# Altium schematic symbol library INDUCTORS.SchLib: 13 symbols
Pins are listed as number, name and electrical type; pins without a type are passive.

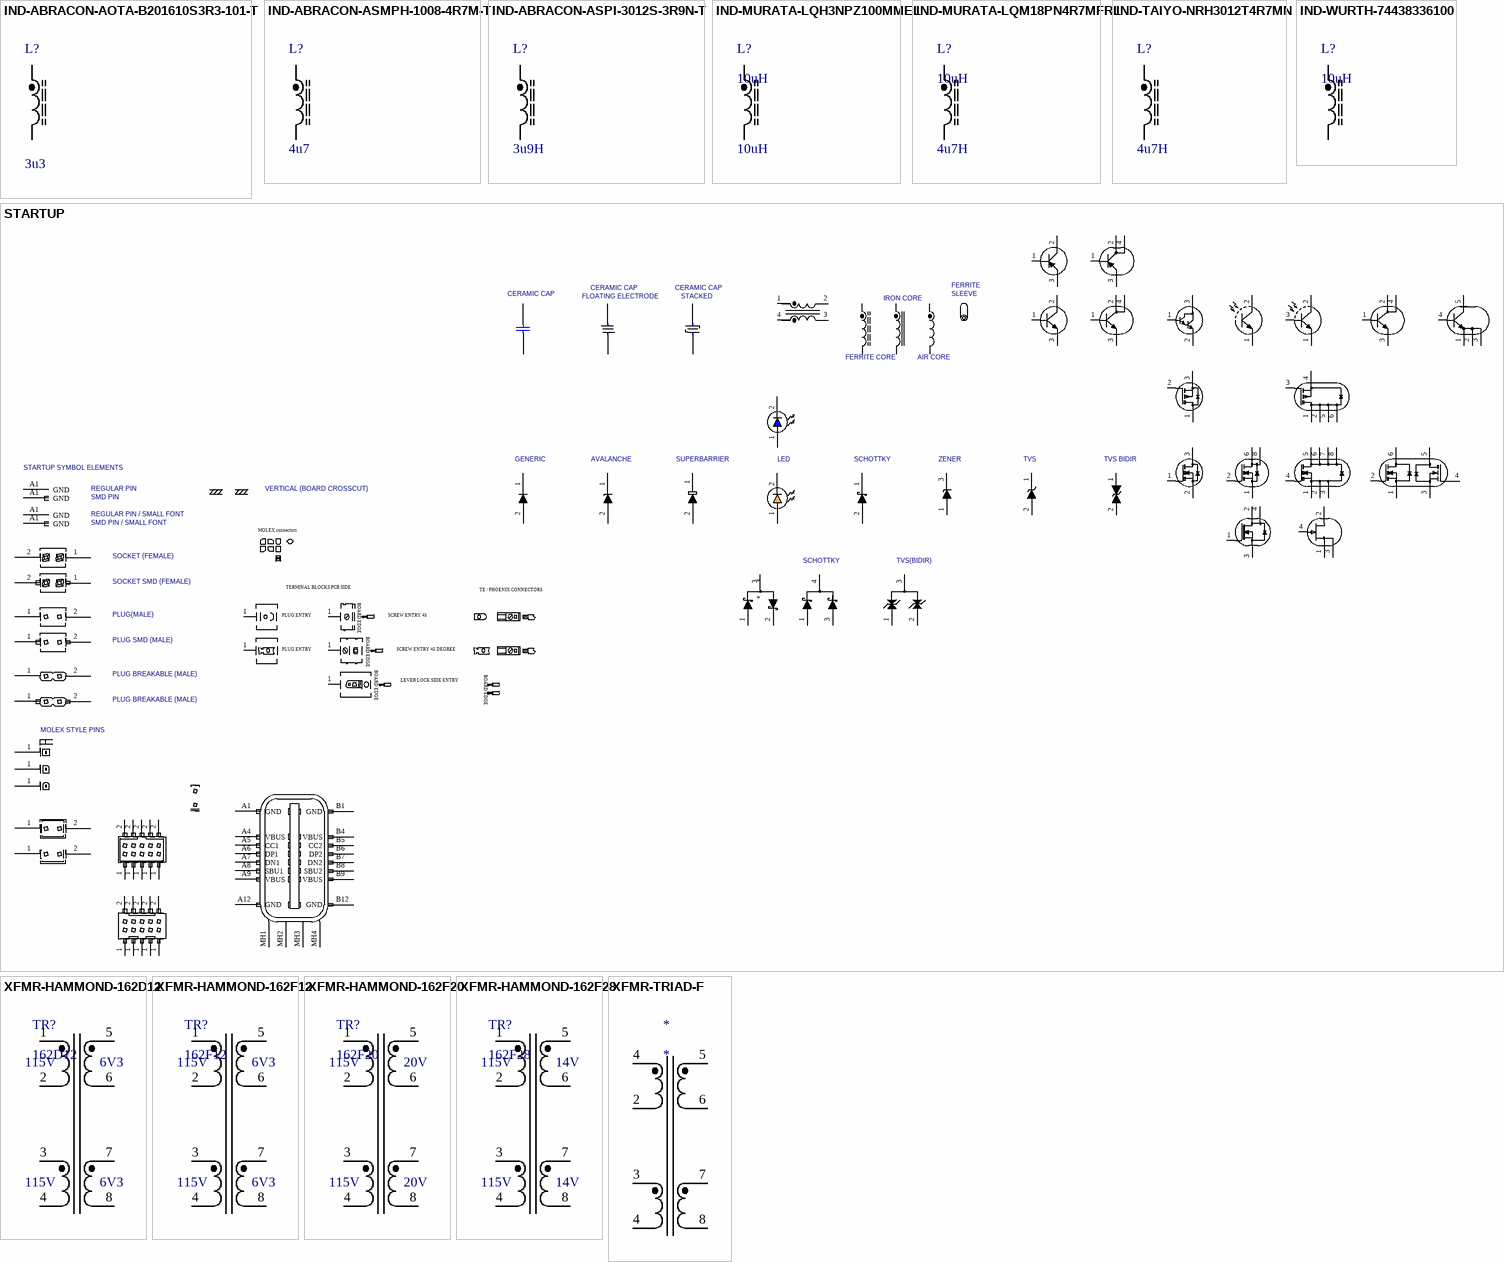
[diagram p0: symbols IND-ABRACON-AOTA-B201610S3R3-101-T to XFMR-TRIAD-F]

## IND-ABRACON-AOTA-B201610S3R3-101-T
designator L?, comment value 3u3  (hidden comment: AOTA-B201610S3R3-101-T)
IND,3U3,RP2350, ABRACON AOTA-B201610S3R3-101-T; Supplier 1: Mouser; Supplier Part Number 1: 815-AB201610S3R3101T; LCSC: C42411119
footprint IND-ABRACON-B201610S3R3-101-T
pins: 1, 2

## IND-ABRACON-ASMPH-1008-4R7M-T
designator L?, comment 4u7
IND,4.7uH,1.1A,1008, ASMPH-1008-4R7M-T; Manufacturer 1: ABRACON; Manufacturer Part Number 1: ASMPH-1008-4R7M-T; VALUE: 4u7
footprint IND-ABRACON-ASPI-3012S-3R9N-T
pins: 1, 2

## IND-ABRACON-ASPI-3012S-3R9N-T
designator L?, comment 3u9H
IND,3.9uH,1.2A,3X3, ASPI-3012S-3R9N-T; LCSC: C167751 , C42429305 ,; Supplier 1: Mouser; Supplier Part Number 1: 815-ASPI312S3R9NT; VALUE: 3u9H
footprint IND-ABRACON-ASPI-3012S-3R9N-T
pins: 1, 2

## IND-MURATA-LQH3NPZ100MMEL
designator L?, comment 10uH
IND,10uH,1.2A,3X3, LQH3NPZ100MMEL; Manufacturer 1: MURATA; LCSC: C701168; Supplier 1: Arrow Electronics; Supplier Part Number 1: LQH3NPZ100MMEL; Manufacturer Part Number 1: LQH3NPZ100MMEL; MOUSER: 81-LQH3NPZ100MMEL; VALUE: 10uH
footprint IND-MURATA-LQH3NPZ
pins: 1, 2

## IND-MURATA-LQM18PN4R7MFRL
designator L?, comment 10uH  value 4u7H
IND,4u7H,0.6A,0603, LLQM18PN4R7MFRL; Manufacturer 1: MURATA; LCSC: C114862; Manufacturer Part Number 1: LLQM18PN4R7MFRL; MOUSER: 81-LQH3NPZ100MMEL
footprint CAPC0603 (CAPACITOR, CHIP 0603 (1608) 0.5MM THICK)
pins: 1, 2

## IND-TAIYO-NRH3012T4R7MN
designator L?, comment value 4u7H  (hidden comment: 4.7uH)
IND,4.7uH,1.06A,3X3, NRH3012T4R7MN; LCSC: C5159666, C42429096; Supplier 1: Digikey; Supplier Part Number 1: 587-2591-1-ND
footprint IND-ABRACON-ASPI-3012S-3R9N-T
pins: 1, 2

## IND-WURTH-74438336100
designator L?, comment 10uH
IND,10uH,1.2A,SPM3030, WURTH 74438336100; Supplier 1: Digikey; Supplier Part Number 1: 732-5700-1-ND; LCSC: C842929
footprint IND-WURTH-MAPI-3020
pins: 1, 2

## STARTUP
designator *
STARTUP
pins: 1, 1, 1, 1, 1, 1, 1, 1, 1, 1 A, 1 A, 1 A, 1 K, 1 K, 1 K, 1 A, 1 K, 1 K, 1 K, 1 K, 1 A, 1, 1, 1, 1, 1, 1, 1, 1 B, 1 B, 1 B, 1, 1, 1 D, 1 D, 1 B, 1 B, 1 S, 1 S, 1 G1, 1 G1, 1 S1, 1 S, 1, 1, 1, 1, 1, 1, 1, 1, 1, 1, 1, 1, 1, 1, 1, 1, 1, 1 B, 1 E, 2, 2 K, 2 K, 2 A, 2 A, 2 A, 2 A, 2 A, 2 A, 2 A, 2 K, 2, 2, 2, 2, 2, 2, 2, 2 C, 2 C, 2 E, 2, 2, 2 D, 2 G, 2 C, 2 C, 2 G1, 2 S, 2 S, 2 D, 2 G1, 2 D, 2, 2, 2, 2, 2, 2, 2, 2, 2, 2, 2, 2, 2, 2, 2, 2, 2, 2 C, 2 E, 3 AK, 3 A, 3 AK, 3 K, 3, 3 E, 3 E, 3 C, 3, 3 G1, 3 S, 3 E, 3 E, 3 S, 3 D, 3 S, 3 S2, 3 S, 3 E, 3 E, 4 K, 4, 4 E, 4 S, 4 C, 4 G1, 4 D, 4 G2, 4 G, 4 E, 4 B, 5 D, 5 D, 5 D2, 5 C, 6 D, 6 D, 6 D, 6 D1, 7 D, 8 D, 8 D, A1 GND, A1 GND, A1 GND, A1 GND, A1 GND, A4 VBUS, A5 CC1, A6 DP1, A7 DN1, A8 SBU1, A9 VBUS, A12 GND, B1 GND, B4 VBUS, B5 CC2, B6 DP2, B7 DN2, B8 SBU2, B9 VBUS, B12 GND, MH1 MH, MH2 MH, MH3 MH, MH4 MH
text: FERRITE; CERAMIC CAP; SLEEVE; FLOATING ELECTRODE; STACKED; IRON CORE; FERRITE CORE; AIR CORE; GENERIC; AVALANCHE; SUPERBARRIER; LED; SCHOTTKY; ZENER; TVS; TVS BIDIR; STARTUP SYMBOL ELEMENTS; REGULAR PIN; VERTICAL (BOARD CROSSCUT); SMD PIN; REGULAR PIN / SMALL FONT; SMD PIN / SMALL FONT; MOLEX connectors; SOCKET (FEMALE); TVS(BIDIR); SOCKET SMD (FEMALE); TERMINAL BLOCKS PCB SIDE; TE / PHOENIX CONNECTORS; BOARD EDGE; PLUG(MALE); PLUG ENTRY; SCREW ENTRY 45; PLUG SMD (MALE); SCREW ENTRY 45 DEGREE; PLUG BREAKABLE (MALE); LEVER LOCK SIDE ENTRY; MOLEX STYLE PINS

## XFMR-HAMMOND-162D12
designator TR?, comment 162D12
XFMR,115/230,2X6V3,1.16A,HAMMOND,162F12
footprint XFMR-HAMMOND-162D12 (XFMR,HAMMOND,162D12)
pins: 1, 2, 3, 4, 5, 6, 7, 8
text: 115V; 6V3

## XFMR-HAMMOND-162F12
designator TR?, comment 162F12
XFMR,115/230,2X6V3,6VA,HAMMOND,162F12
footprint XFMR-HAMMOND-162F12 (XFMR,HAMMOND,162F12)
pins: 1, 2, 3, 4, 5, 6, 7, 8
text: 115V; 6V3

## XFMR-HAMMOND-162F20
designator TR?, comment 162F20
XFMR,115/230,2X20,6VA,HAMMOND,162F20
footprint XFMR-HAMMOND-162F20 (XFMR,HAMMOND,162F20)
pins: 1, 2, 3, 4, 5, 6, 7, 8
text: 115V; 20V

## XFMR-HAMMOND-162F28
designator TR?, comment 162F28
XFMR,115/230,2X14,6VA,HAMMOND,162F28
footprint XFMR-HAMMOND-162F28 (XFMR,HAMMOND,162F28)
pins: 1, 2, 3, 4, 5, 6, 7, 8
text: 115V; 14V

## XFMR-TRIAD-F
designator *
pins: 2, 3, 4, 4, 5, 6, 7, 8